# EAGLE library part C8051F311 (library cygnal_mini)
Cygnal C8051F311 microcontroller
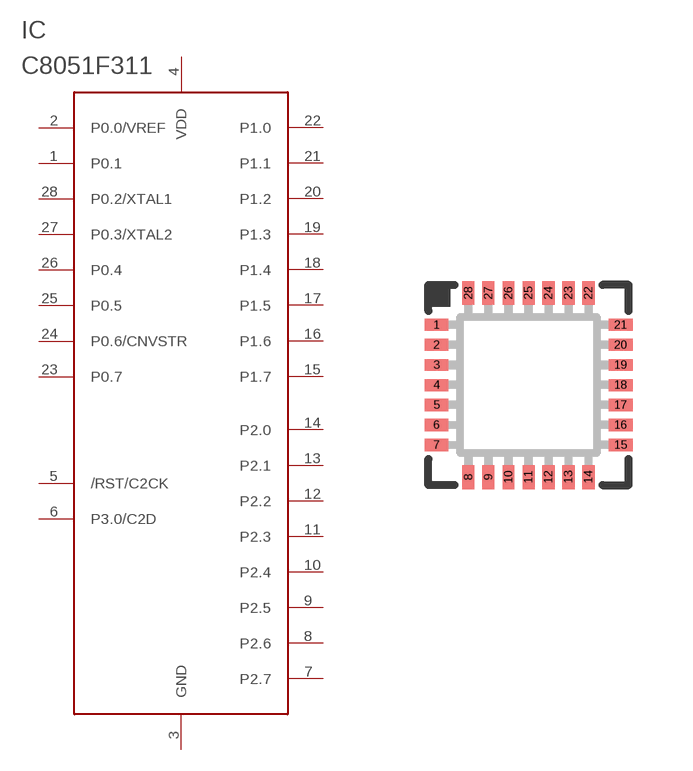
[diagram p0: symbol with the pads of MLP28; footprint MLP28]

Designator prefix IC

## C8051F311  [MLP28]
1  P0.1
2  P0.0/VREF
3  GND  pwr
4  VDD  pwr
5  /RST/C2CK
6  P3.0/C2D
7  P2.7
8  P2.6
9  P2.5
10  P2.4
11  P2.3
12  P2.2
13  P2.1
14  P2.0
15  P1.7
16  P1.6
17  P1.5
18  P1.4
19  P1.3
20  P1.2
21  P1.1
22  P1.0
23  P0.7
24  P0.6/CNVSTR
25  P0.5
26  P0.4
27  P0.3/XTAL2
28  P0.2/XTAL1

## Footprint MLP28 (pad centres in mm)
Cygnal MLP28
smd 0.6 x 0.3: 1 -2.3,1.5; 2 -2.3,1; 3 -2.3,0.5; 4 -2.3,0; 5 -2.3,-0.5; 6 -2.3,-1; 7 -2.3,-1.5; 15 2.3,-1.5; 16 2.3,-1; 17 2.3,-0.5; 18 2.3,0; 19 2.3,0.5; 20 2.3,1; 21 2.3,1.5
smd 0.3 x 0.6: 8 -1.5,-2.3; 9 -1,-2.3; 10 -0.5,-2.3; 11 0,-2.3; 12 0.5,-2.3; 13 1,-2.3; 14 1.5,-2.3; 22 1.5,2.3; 23 1,2.3; 24 0.5,2.3; 25 0,2.3; 26 -0.5,2.3; 27 -1,2.3; 28 -1.5,2.3